# Altium footprint library relay.PcbLib: 1 footprints
Each footprint in its own frame and in the unit in brackets; x right, y up, seen from the top. Pads: shape width x height; smd on the part's side, far side on the other; paste and mask are expansions set on the pad; w line width, h text height; cw(c..) or ccw(c..) is an arc to the next point about the centre after c.
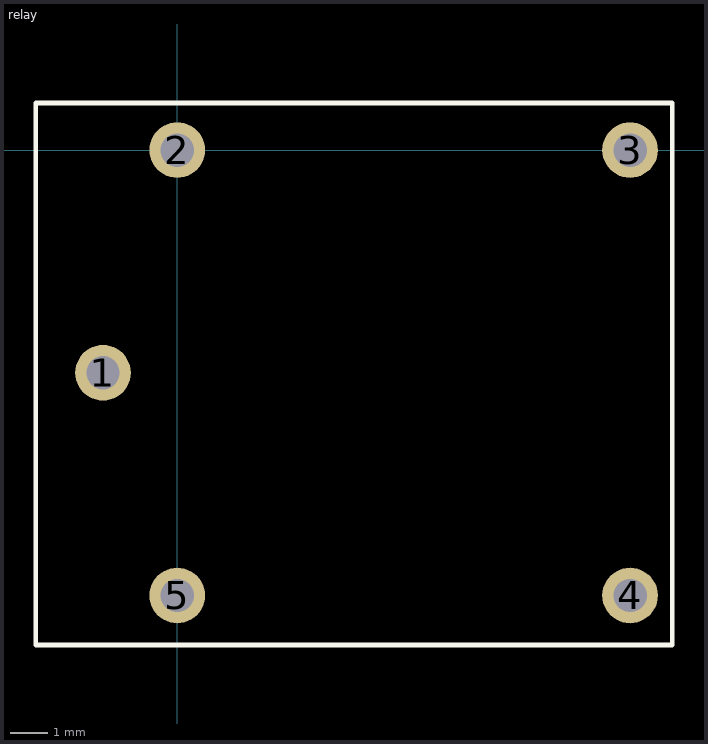
[diagram p0: the footprint, top view; thin cyan lines are the x and y axes]

## relay [mm]
pads (5):
  round 1.5 hole 0.9: 1(-2,-6) 2(0,0) 3(12.2,0) 4(12.2,-12) 5(0,-12)
Top Overlay:
  lines w0.127: -3.81,-13.335 13.335,-13.335 13.335,1.27 -3.81,1.27 -3.81,-6.35 -3.81,-13.335